# EAGLE library part L293D (library HB_TH_L293D)
4-Channel Motor Driver 24V 16-Pin Power PDIP Tube
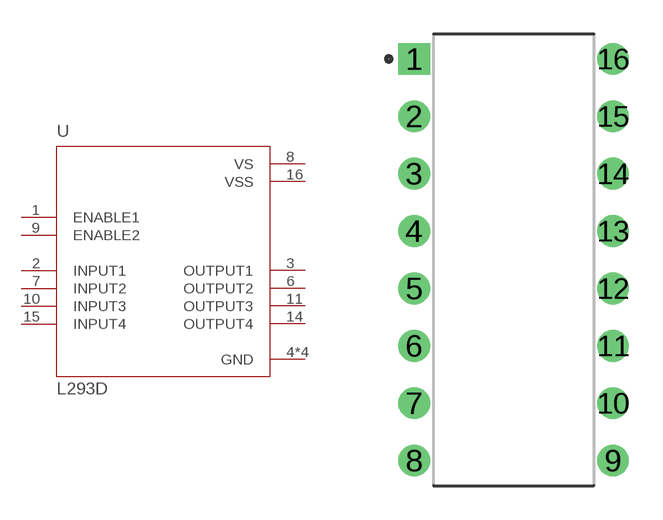
[diagram p0: symbol with the pads of DIP880W50P254L2000H510Q16; footprint DIP880W50P254L2000H510Q16]

Designator prefix U

## L293D (Check_prices: https://www.snapeda.com/parts/L293D/STMicroelectronics/view-part/?ref=eda; Description: Bipolar Motor Driver - Parallel 16-PowerDIP; DigiKey_Part_Number: 497-2936-5-ND; MF: STMicroelectronics; MP: L293D; Package: DIP-16 STMicroelectronics; Purchase-URL: https://www.snapeda.com/api/url_track_click_mouser/?unipart_id=3077057&manufacturer=STMicroelectronics&part_name=L293D&search_term=None; SnapEDA_Link: https://www.snapeda.com/parts/L293D/STMicroelectronics/view-part/?ref=snap)  [DIP880W50P254L2000H510Q16]
1  ENABLE1  in
2  INPUT1  in
3  OUTPUT1  out
4  GND  pwr
5  GND  pwr
6  OUTPUT2  out
7  INPUT2  in
8  VS  pwr
9  ENABLE2  in
10  INPUT3  in
11  OUTPUT3  out
12  GND  pwr
13  GND  pwr
14  OUTPUT4  out
15  INPUT4  in
16  VSS  pwr

## Footprint DIP880W50P254L2000H510Q16 (pad centres in mm)
drill 0.9 pad 1.25 square: 1 -4.4,8.89
drill 0.9 pad 1.25: 2 -4.4,6.35; 3 -4.4,3.81; 4 -4.4,1.27; 5 -4.4,-1.27; 6 -4.4,-3.81; 7 -4.4,-6.35; 8 -4.4,-8.89; 9 4.4,-8.89; 10 4.4,-6.35; 11 4.4,-3.81; 12 4.4,-1.27; 13 4.4,1.27; 14 4.4,3.81; 15 4.4,6.35; 16 4.4,8.89